# Altium schematic symbol library Con_Other.Schlib: 13 symbols
Pins are listed as number, name and electrical type; pins without a type are passive.

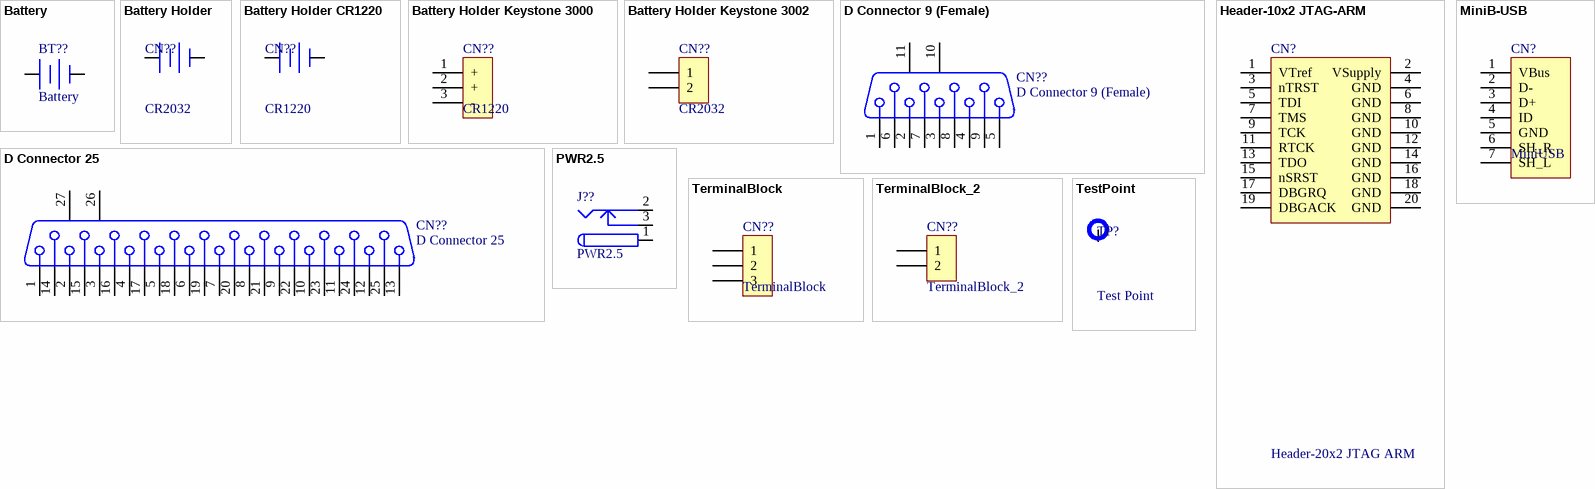
[diagram p0: symbols Battery to TestPoint]

## Battery
designator BT??
Multicell Battery; Published: 24-Mar-1999; LatestRevisionDate: 17-Jul-2002; LatestRevisionNote: Re-released for DXP Platform.; PackageReference: BAT-2; Publisher: Altium Limited; PackageDescription: Battery; 2 Leads
footprint HDR1X2 (Connector; Header; 2 Position)
pins: 1 +, 2 -

## Battery Holder
designator CN??, comment CR2032
Battery Holder
footprint Coin Cell Holder (Coin Cell Holder 20mm)
pins: 1 +, 2 -

## Battery Holder CR1220
designator CN??, comment CR1220
Battery Holder CR1220
footprint Coin Cell Holder CR1220 (Coin Cell Holder 20mm)
pins: 1 +, 2 -

## Battery Holder Keystone 3000
designator CN??, comment CR1220
Battery Holder Keystone 3000
footprint Coin Cell Holder 3000 Keystone (Coin Cell Holder 12mm)
pins: 1 +, 2 +, 3 -

## Battery Holder Keystone 3002
designator CN??, comment CR2032
Battery Holder Keystone 3002
footprint Coin Cell Holder 3003 Keystone (Coin Cell Holder 20mm)
pins: 1, 2

## D Connector 9 (Female)
designator CN??
Receptacle Assembly, 9 Position, Right Angle
footprint DSUB1.385-2H9A (Connector; D Subminiature AMPLIMITE 2000; 9 Position; Right Angle)
pins: 1, 2, 3, 4, 5, 6, 7, 8, 9, 10 MH1, 11 MH2

## D Connector 25
designator CN??
Receptacle Assembly, 25 Position, Right Angle
footprint DSUB1.385-2H25 (Connector; D Subminiature AMPLIMITE 2000; 25 Position; Right Angle)
pins: 1, 2, 3, 4, 5, 6, 7, 8, 9, 10, 11, 12, 13, 14, 15, 16, 17, 18, 19, 20, 21, 22, 23, 24, 25, 26 MH1, 27 MH2

## Header-10x2 JTAG-ARM
designator CN?, comment Header-20x2 JTAG ARM
Header, 25-Pin, Dual row
footprint HDR2X20-JTAG (Connector; Header; 20x2 Position)
pins: 1 VTref, 2 VSupply, 3 nTRST, 4 GND, 5 TDI, 6 GND, 7 TMS, 8 GND, 9 TCK, 10 GND, 11 RTCK, 12 GND, 13 TDO, 14 GND, 15 nSRST, 16 GND, 17 DBGRQ, 18 GND, 19 DBGACK, 20 GND

## MiniB-USB
designator CN?, comment MiniUSB
Header, 5-Pin, Right Angle
footprint USB0.8-2V5 (Connector; USB Mini-B, Type 2, Thru-Hole; 5 Position; Vertical)
pins: 1 VBus, 2 D-, 3 D+, 4 ID, 5 GND, 6 SH_R, 7 SH_L

## PWR2.5
designator J??
Low Voltage Power Supply Connector; Published: 17-Dec-2003; DatasheetDocument: 09-May-2002; Publisher: Altium Limited; ComponentLink1Description: Manufacturer Link; ComponentLink1URL: http://domino.kycon.com/internet/Products.html
footprint KLD-0202 (DC Power Jack, 2.5mm, KLD Series, PCB Mount)
signal-integrity model Connector
pins: 1 (power), 2 (power), 3 (power)

## TerminalBlock
designator CN??
Header, 3-Pin
footprint TERMBLOCK3 (Connector; Header; 2 Position)
pins: 1, 2, 3

## TerminalBlock_2
designator CN??
Header, 2-Pin
footprint TERMBLOCK2 (Connector; Header; 2 Position)
pins: 1, 2

## TestPoint
designator TP?, comment Test Point
Test Pointer; Published: 24-Mar-1999; LatestRevisionDate: 17-Jul-2002; LatestRevisionNote: Re-released for DXP Platform.; PackageReference: PIN1; Publisher: Altium Limited
footprint PIN1 (Generic Antenna; 1 Lead)
footprint PIN2 (Generic Antenna; 1 Lead)
footprint PIN3 (Generic Antenna; 1 Lead)
pins: 1 A